# Altium footprint library MICRO-SIM-SMD_KH-SIM1616-6PIN.PcbLib: 1 footprints
Each footprint in its own frame and in the unit in brackets; x right, y up, seen from the top. Pads: shape width x height; smd on the part's side, far side on the other; paste and mask are expansions set on the pad; w line width, h text height; cw(c..) or ccw(c..) is an arc to the next point about the centre after c.
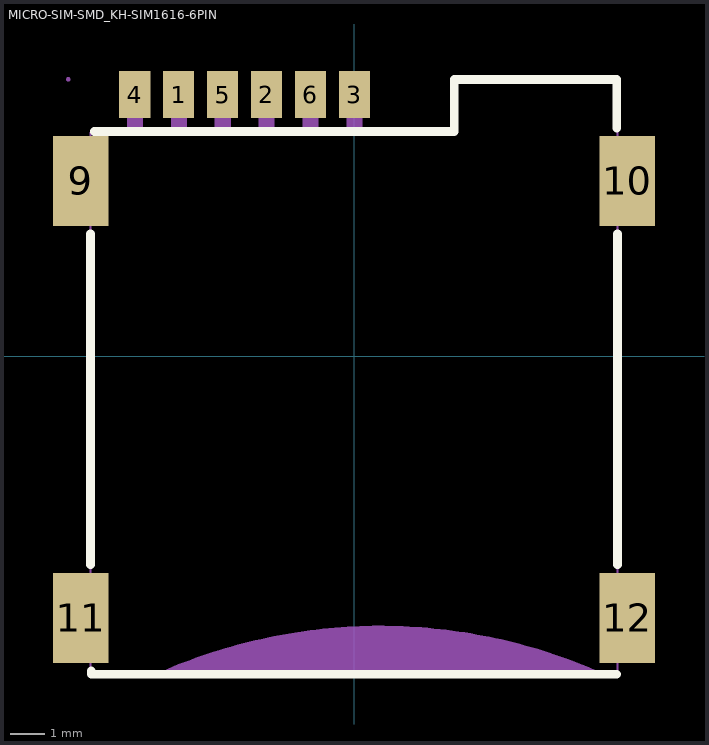
[diagram p0: the footprint, top view; thin cyan lines are the x and y axes]

## MICRO-SIM-SMD_KH-SIM1616-6PIN [mm]
pads (10):
  rect 0.9x1.35 smd: 1(-5.07,7.565) 2(-2.53,7.565) 3(0.01,7.565) 4(-6.34,7.565) 5(-3.8,7.565) 6(-1.26,7.565)
  rect 1.6x2.6 smd: 9(-7.9,5.065) 10(7.9,5.065) 11(-7.9,-7.565) 12(7.9,-7.565)
Top Overlay:
  lines w0.254: -7.62,-6.034 -7.62,3.534 ; -7.6,-9.096 -7.6,-9.2 7.6,-9.2 ; -7.5,6.5 2.9,6.5 2.9,8 7.6,8 7.6,7.493 ; 7.6,6.6 7.6,7.497 ; 7.62,-6.034 7.62,3.534
Mechanical 6:
  region: 0.7,-7.8 0.521,-7.802 0.342,-7.805 0.162,-7.811 -0.017,-7.819 -0.196,-7.829 -0.375,-7.841 -0.553,-7.854 -0.732,-7.87 -0.91,-7.888 -1.088,-7.908 -1.266,-7.93 -1.444,-7.954 -1.621,-7.98 -1.798,-8.008 -1.975,-8.038 -2.152,-8.07 -2.328,-8.104 -2.503,-8.14 -2.678,-8.178 -2.853,-8.218 -3.027,-8.26 -3.201,-8.304 -3.374,-8.35 -3.547,-8.397 -3.719,-8.447 -3.891,-8.499 -4.062,-8.553 -4.233,-8.608 -4.402,-8.666 -4.571,-8.725 -4.74,-8.787 -4.908,-8.85 -5.075,-8.915 -5.241,-8.982 -5.406,-9.051 -5.571,-9.122 -5.735,-9.194 -5.791,-9.22 7.309,-9.22 7.145,-9.147 6.981,-9.075 6.815,-9.006 6.649,-8.938 6.483,-8.872 6.315,-8.808 6.147,-8.746 5.978,-8.686 5.809,-8.628 5.638,-8.572 5.468,-8.517 5.296,-8.465 5.124,-8.414 4.952,-8.366 4.778,-8.319 4.605,-8.275 4.431,-8.232 4.256,-8.191 4.081,-8.153 3.906,-8.116 3.73,-8.082 3.553,-8.049 3.377,-8.018 3.2,-7.989 3.023,-7.963 2.845,-7.938 2.667,-7.916 2.489,-7.895 2.311,-7.876 2.132,-7.86 1.954,-7.845 1.775,-7.833 1.596,-7.822 1.417,-7.814 1.238,-7.807 1.058,-7.803 0.879,-7.8
Mechanical 15:
  region: -8.26,4.07 -8.26,6.07 -7.26,6.07 -7.26,4.07
  region: -8.26,-8.565 -8.26,-6.565 -7.26,-6.565 -7.26,-8.565
  region: 7.25,-8.56 7.25,-6.56 8.25,-6.56 8.25,-8.56
  region: 7.25,4.07 7.25,6.07 8.25,6.07 8.25,4.07
  region: -6.11,6.42 -6.56,6.42 -6.56,6.92 -6.11,6.92
  region: -4.84,6.42 -5.29,6.42 -5.29,6.92 -4.84,6.92
  region: -3.57,6.42 -4.02,6.42 -4.02,6.92 -3.57,6.92
  region: -2.3,6.42 -2.75,6.42 -2.75,6.92 -2.3,6.92
  region: -1.03,6.42 -1.48,6.42 -1.48,6.92 -1.03,6.92
  region: 0.24,6.42 -0.21,6.42 -0.21,6.92 0.24,6.92
  region: -1.49,6.89 -1.49,7.89 -1.03,7.89 -1.03,6.89
  region: -4.03,6.89 -4.03,7.89 -3.57,7.89 -3.57,6.89
  region: -6.57,6.89 -6.57,7.89 -6.11,7.89 -6.11,6.89
  region: -0.22,6.89 -0.22,7.89 0.24,7.89 0.24,6.89
  region: -2.76,6.89 -2.76,7.89 -2.3,7.89 -2.3,6.89
  region: -5.3,6.89 -5.3,7.89 -4.84,7.89 -4.84,6.89
  region: -8.2,8.001 -8.201,8.025 -8.236,8.059 -8.284,8.059 -8.319,8.025 -8.32,8.001 -8.319,7.977 -8.284,7.943 -8.236,7.943 -8.201,7.977 -8.2,8.001
  lines w0.051: -7.62,-9.144 7.62,-9.271 7.62,8.001 2.921,8.001 2.921,6.477 -7.62,6.477 -7.62,-9.144